# Altium schematic symbol library Schlib.SchLib: 21 symbols
Pins are listed as number, name and electrical type; pins without a type are passive.

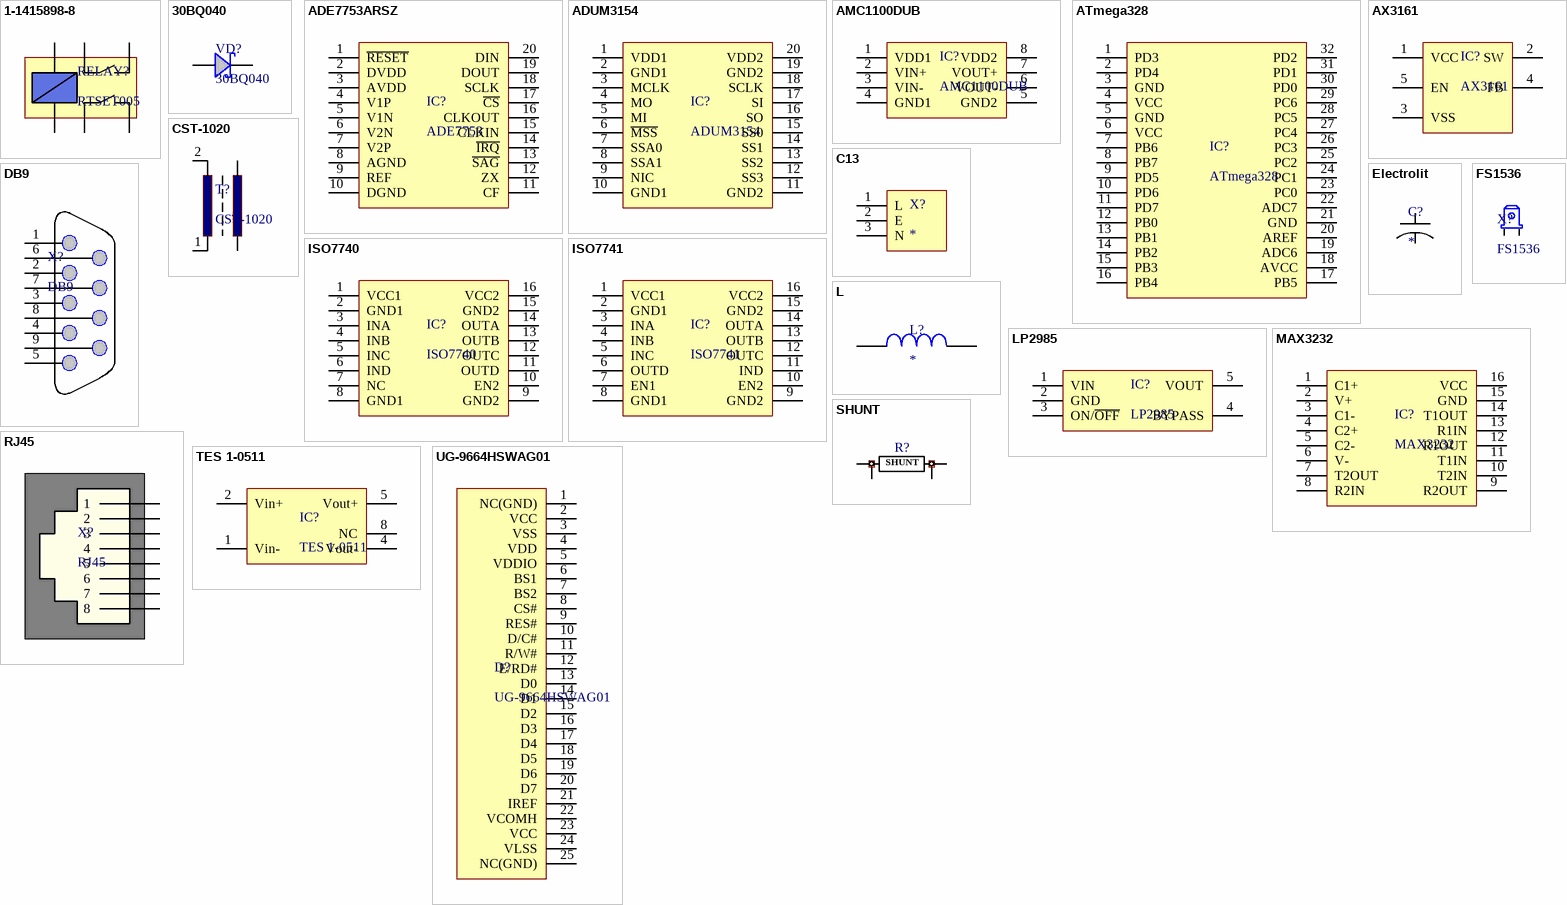
[diagram p0: symbols 1-1415898-8 to UG-9664HSWAG01]

## 1-1415898-8
designator RELAY?, comment RTSET005
General Purpose Relay; Link: https://eu.mouser.com/ProductDetail/TE-Connectivity-Schrack/1-1415898-8?qs=sGAEpiMZZMtSzCF3XBhmWxVXhhOcokhwoCZCdeXWAPQ%3d
footprint RTSET005
pins: 1, 2, 3, 4, 5, 6

## 30BQ040
designator VD?
High Performance Schottky Rectifier, 3.0 A; Link: https://voron.ua/catalog/schottky-diode-30bq040-irf
footprint DO-214AB (SMC) (Molded Diode, 2-Leads, Body 7.94x5.90mm, IPC Medium Density)
pins: A, C

## ADE7753ARSZ
designator IC?, comment ADE7753
Data Acquisition ADC/DAC; Link: https://eu.mouser.com/ProductDetail/Analog-Devices/ADE7753ARSZ?qs=sGAEpiMZZMt%2foy9k%2f5obbU0YfL1ODTen1opxaKIIbJ8%3d
footprint SOP-20 (SOP, 20-Leads, Body 7.20x5.30mm, Pitch 0.65mm, IPC Medium Density)
pins: 1 ~{RESET}, 2 DVDD, 3 AVDD, 4 V1P, 5 V1N, 6 V2N, 7 V2P, 8 AGND, 9 REF, 10 DGND, 11 CF, 12 ZX, 13 ~{SAG}, 14 ~{IRQ}, 15 CLKIN, 16 CLKOUT, 17 ~{CS}, 18 SCLK, 19 DOUT, 20 DIN

## ADUM3154
designator IC?
Digital Isolator for SPI
pins: 1 VDD1, 2 GND1, 3 MCLK, 4 MO, 5 MI, 6 ~{MSS}, 7 SSA0, 8 SSA1, 9 NIC, 10 GND1, 11 GND2, 12 SS3, 13 SS2, 14 SS1, 15 SS0, 16 SO, 17 SI, 18 SCLK, 19 GND2, 20 VDD2

## AMC1100DUB
designator IC?
Isolation Amplifier 4.25kV PEAK Iso Amp; Link: https://eu.mouser.com/ProductDetail/Texas-Instruments/AMC1100DUB?qs=sGAEpiMZZMtyhvbnOfCRF61vo0acNs%252bLlKO24cJs2Kc%3d
footprint SOP254-8N (SOP, 8-Leads, Body 9.29x6.62mm, Pitch 2.54mm, IPC Medium Density)
pins: 1 VDD1, 2 VIN+, 3 VIN-, 4 GND1, 5 GND2, 6 VOUT-, 7 VOUT+, 8 VDD2

## ATmega328
designator IC?
High Performance, Low Power Atmel AVR 8-Bit Microcontroller; Link: https://www.rcscomponents.kiev.ua/product/atmega328p-an_118240.html
footprint TQFP-32
pins: 1 PD3, 2 PD4, 3 GND, 4 VCC, 5 GND, 6 VCC, 7 PB6, 8 PB7, 9 PD5, 10 PD6, 11 PD7, 12 PB0, 13 PB1, 14 PB2, 15 PB3, 16 PB4, 17 PB5, 18 AVCC, 19 ADC6, 20 AREF, 21 GND, 22 ADC7, 23 PC0, 24 PC1, 25 PC2, 26 PC3, 27 PC4, 28 PC5, 29 PC6, 30 PD0, 31 PD1, 32 PD2

## AX3161
designator IC?
52KHz, 2A PWM Buck DC/DC Converter; Link: https://voron.ua/catalog/031858
footprint TO263-5L
pins: 1 VCC, 2 SW, 3 VSS, 4 FB, 5 EN

## C13
designator X?
footprint C13_RA_TH
pins: 1 L, 2 E, 3 N

## CST-1020
designator T?
Current Transformer; Link: https://eu.mouser.com/ProductDetail/Triad-Magnetics/CST-1020?qs=sGAEpiMZZMsx8IbIvybzbCEMhEibz%252bNbEIaAF3qXCnQ%3d
footprint CST-1020
pins: 1, 2

## DB9
designator X?
footprint DB9
pins: 1, 2, 3, 4, 5, 6, 7, 8, 9

## Electrolit
designator C?
Electrolit capasitor; Value: *
footprint ELV471M25RF (Aluminum Electrolytic Capacitor, Body 10.30x10.30x10.50mm, IPC Low Density)
pins: 1, 2

## FS1536
designator X?
PCB Soldering tips
footprint FS1536
pins: 1, 2

## ISO7740
designator IC?
Quad-Channel Digital Isolators
footprint SOIC-16
pins: 1 VCC1, 2 GND1, 3 INA, 4 INB, 5 INC, 6 IND, 7 NC, 8 GND1, 9 GND2, 10 EN2, 11 OUTD, 12 OUTC, 13 OUTB, 14 OUTA, 15 GND2, 16 VCC2

## ISO7741
designator IC?
Quad-Channel Digital Isolators
footprint SOIC-16 (SOIC, 16-Leads, Body 10.30x7.50mm, Pitch 1.27mm, IPC Medium Density)
pins: 1 VCC1, 2 GND1, 3 INA, 4 INB, 5 INC, 6 OUTD, 7 EN1, 8 GND1, 9 GND2, 10 EN2, 11 IND, 12 OUTC, 13 OUTB, 14 OUTA, 15 GND2, 16 VCC2

## L
designator L?
Inductor; Value: *
footprint L-12.3x12.3 (Precision Wire Wound Inductor, 2-Leads, Body 12.00x12.00mm, IPC Medium Density)
footprint L-7.5x7.5
pins: 1, 2

## LP2985
designator IC?
150-mA Low-noise Low-dropout Regulator With Shutdown; Link: https://www.rcscomponents.kiev.ua/product/lp2985a-33dbvr_31082.html
footprint SOT23-5
pins: 1 VIN, 2 GND, 3 ON/~{OFF}, 4 BYPASS, 5 VOUT

## MAX3232
designator IC?
RS-232 Line Driver/Receiver With ±15-kV ESD Protection
footprint SSOP-16
pins: 1 C1+, 2 V+, 3 C1-, 4 C2+, 5 C2-, 6 V-, 7 T2OUT, 8 R2IN, 9 R2OUT, 10 T2IN, 11 T1IN, 12 R1OUT, 13 R1IN, 14 T1OUT, 15 GND, 16 VCC

## RJ45
designator X?
Outlet YH-55-05 8P8C 5521; Link: https://www.rcscomponents.kiev.ua/product/rozetka-yh-55-05-8p8c-5521-l-kls12-133-8p8c-w-o-2-01_8324.html
footprint RJ45
pins: 1, 2, 3, 4, 5, 6, 7, 8

## SHUNT
designator R?  (value not drawn)
Current Shunt; Link: https://www.digikey.com/product-detail/en/vishay-dale/WSHP2818R0330FEA/541-3279-1-ND/6605255
footprint WSHP2818 (Chip Resistor, 2-Leads, Body 7.10x4.60mm, IPC Medium Density)
pins: 1, 2, 3, 4

## TES 1-0511
designator IC?
Isolated DC/DC Converter; Link: https://eu.mouser.com/ProductDetail/TRACO-Power/TES-1-0511?qs=sGAEpiMZZMsF1ODjcwEocH3QqeL6%2foLAEyBjyRDduFs%3d
footprint TES 1-0511
pins: 1 Vin-, 2 Vin+, 4 Vout-, 5 Vout+, 8 NC

## UG-9664HSWAG01
designator D?
Display
footprint UG-9664HSWAG01
pins: 1 NC(GND), 2 VCC, 3 VSS, 4 VDD, 5 VDDIO, 6 BS1, 7 BS2, 8 CS#, 9 RES#, 10 D/C#, 11 R/W#, 12 E/RD#, 13 D0, 14 D1, 15 D2, 16 D3, 17 D4, 18 D5, 19 D6, 20 D7, 21 IREF, 22 VCOMH, 23 VCC, 24 VLSS, 25 NC(GND)